# EAGLE library part LM324D (library ST Microelectronics)
Low power quad operational amplifiers
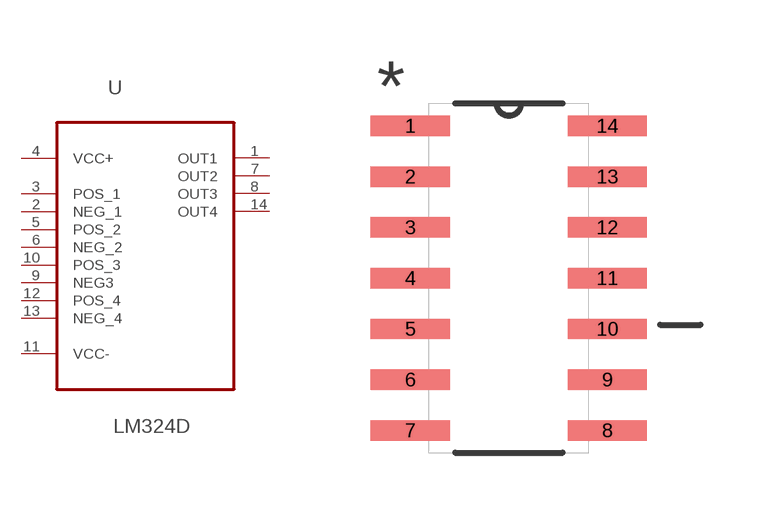
[diagram p116: symbol with the pads of SOIC127P600X175-14N; footprint SOIC127P600X175-14N]

Designator prefix U

## LM324D (MPN: LM324D; OC_FARNELL: 1467655; OC_NEWARK: 72K8847; PACKAGE: SOIC-14; SUPPLIER: STMicroelectronics)  [SOIC127P600X175-14N]
1  OUT1  out
2  NEG_1  in
3  POS_1  in
4  VCC+  pwr
5  POS_2  in
6  NEG_2  in
7  OUT2  out
8  OUT3  out
9  NEG3  in
10  POS_3  in
11  VCC-  pwr
12  POS_4  in
13  NEG_4  in
14  OUT4  out

## Footprint SOIC127P600X175-14N (pad centres in mm)
smd 1.981 x 0.508: 1 -2.464,3.81; 2 -2.464,2.54; 3 -2.464,1.27; 4 -2.464,0; 5 -2.464,-1.27; 6 -2.464,-2.54; 7 -2.464,-3.81; 8 2.464,-3.81; 9 2.464,-2.54; 10 2.464,-1.27; 11 2.464,0; 12 2.464,1.27; 13 2.464,2.54; 14 2.464,3.81